# Altium footprint library misc.PcbLib: 13 footprints
Each footprint in its own frame and in the unit in brackets; x right, y up, seen from the top. Pads: shape width x height; smd on the part's side, far side on the other; paste and mask are expansions set on the pad; w line width, h text height; cw(c..) or ccw(c..) is an arc to the next point about the centre after c.
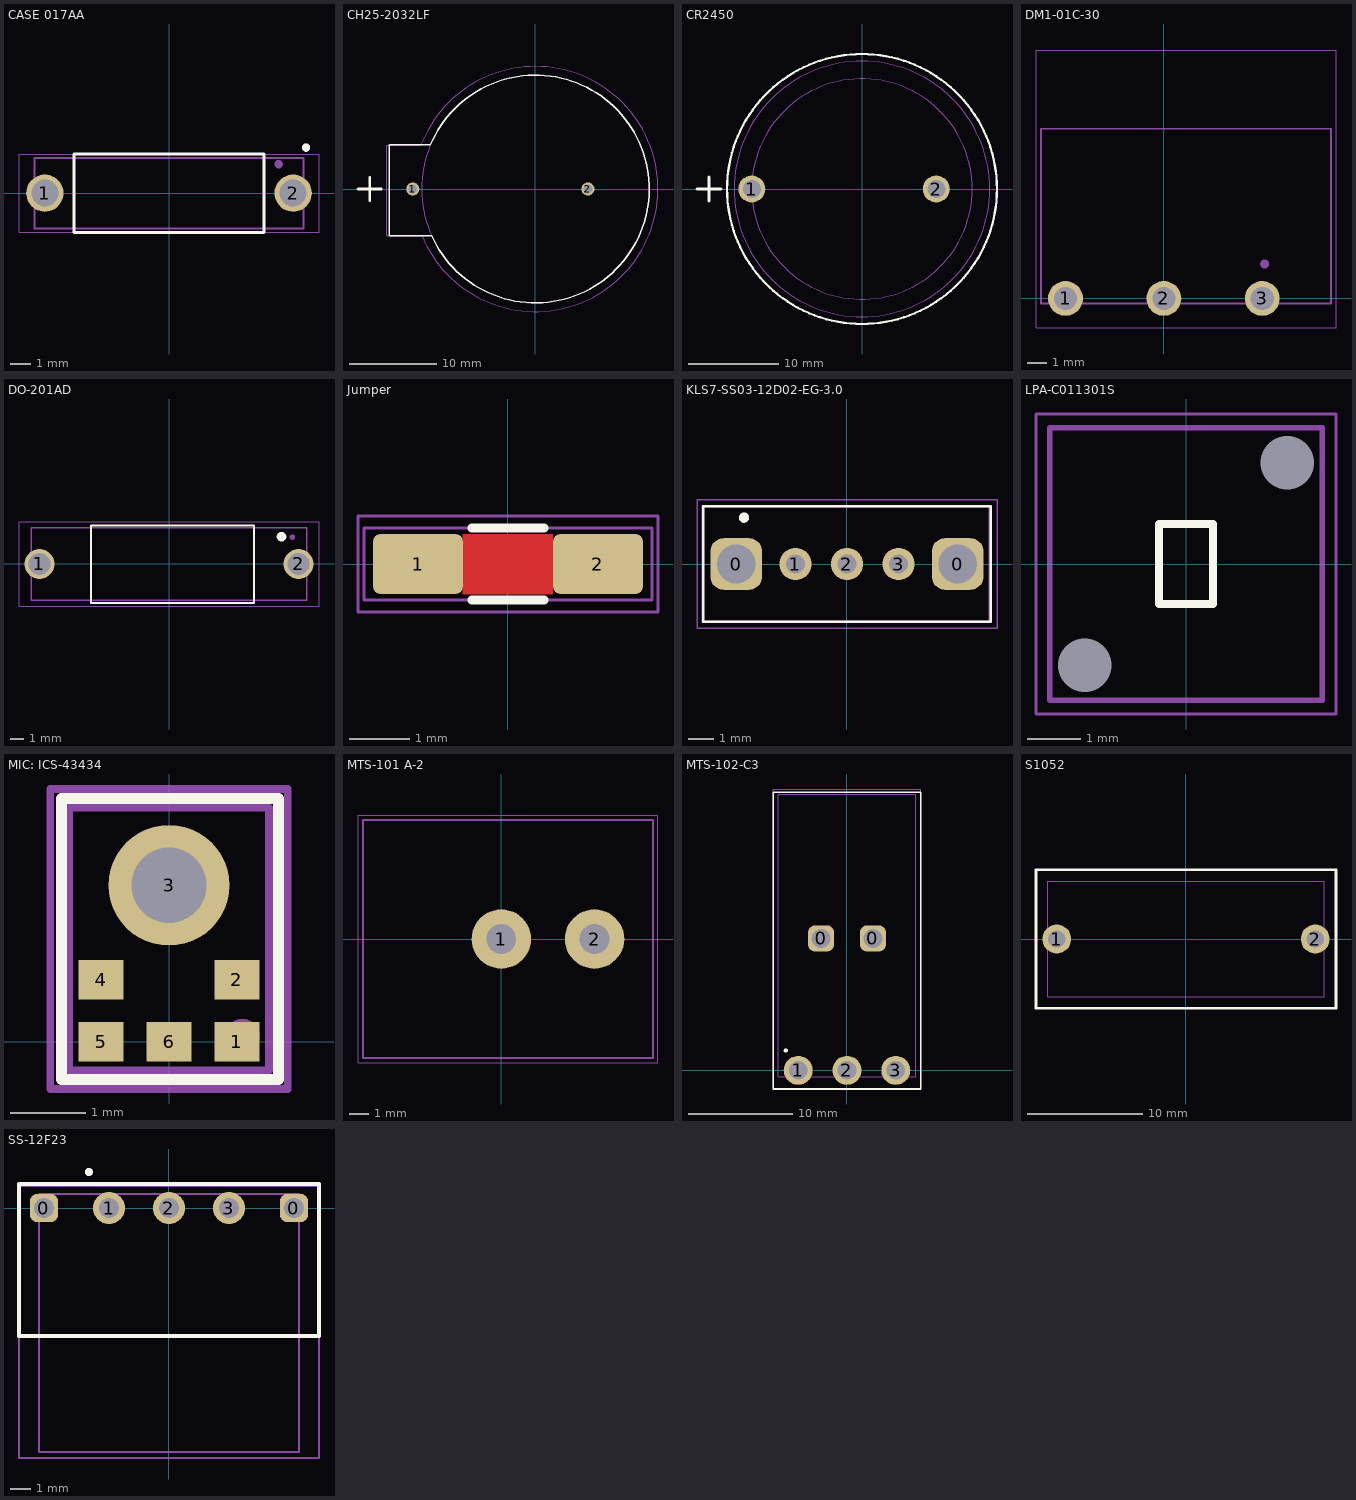
[diagram p0: the footprints below, top view; thin cyan lines are the x and y axes]

## CASE 017AA [mm]
pads (2):
  round 1.8 hole 1.3: 1(-6,0) 2(6,0)
Top Overlay:
  circle w0.2: c6.625,2.2 r0.1
  lines w0.15: -4.6,-1.9 -4.6,1.9 4.6,1.9 4.6,-1.9 -4.6,-1.9
Top Assembly:
  circle w0.2: c5.3,1.4 r0.1
  lines w0.1: -6.5,-1.7 6.5,-1.7 6.5,1.7 -6.5,1.7 -6.5,-1.7
  text ".Designator" at -4.998,-0.333 h1
Top Courtyard:
  lines w0.05: -7.25,-1.886 -7.25,1.886 7.25,1.886 7.25,-1.886 -7.25,-1.886
3D body "User Library-Diode Case 017AA.STEP": height 3.4, standoff -3, extent -6.5,-1.7 6.5,1.7

## CH25-2032LF [mm] "Battery holder"
pads (2):
  round 1.5 hole 1 paste-2539.97: 1(-14,0) 2(6,0)
Top Overlay:
  lines w0.15: -16.7,-5.347 -16.7,5.026 -11.989,5.026 cw(c0,0) -11.85,-5.347 -16.7,-5.347
  lines w0.3: -20.256,0 -17.59,0 ; -18.923,-1.333 -18.923,1.333
Top Assembly:
  circle w0.1: c0,0 r13
  text ".Designator" at -4.648,-2.817 h1
Top Courtyard:
  lines w0.05: -17.009,5.009 -17,5 ; -13.067,5 -17,5 ; -13.067,5.026 cw(c0,0) -12.939,-5.347 -17,-5.347 -17,5
3D body "User Library-CH25-2032.step": height 9.4, standoff -2, extent -16.354,-11.4 11.146,11.4

## CR2450 [mm]
pads (2):
  round 3 hole 2 paste-2539.97: 1(-12.25,0) 2(8.25,0)
Top Overlay:
  circle w0.254: c0,0 r15
  lines w0.3: -18.333,0 -15.666,0 ; -17,-1.333 -17,1.333
Top Assembly:
  circle w0.1: c0,0 r12.25
  text ".Designator" at -4.998,-0.333 h1
Top Courtyard:
  circle w0.05: c0,0 r14.201
3D body "Battery.STEP": height 7.45, standoff -3.27, extent -12.3,-12.5 13.2,12.5

## DM1-01C-30 [mm]
pads (3):
  round 1.8 hole 1.2 paste-2539.97: 1(-5.08,0) 2(0,0) 3(5.08,0)
Top Assembly:
  lines w0.1: -6.35,-0.254 -6.35,8.763 8.636,8.763 8.636,-0.254 -6.35,-0.254
  lines w0.254: 5.308,1.758 cw(c5.207,1.778) 5.31,1.778
  text ".Designator" at -4.998,-0.333 h1
Top Courtyard:
  lines w0.05: -6.604,-1.524 8.89,-1.524 8.89,12.827 -6.604,12.827 -6.604,-1.524
3D body "DM1-01C.step": height 4.1, standoff -5.5, extent -6.4,-0.371 8.65,12.427

## DO-201AD [mm]
pads (2):
  round 2.2 hole 1.6: 1(-9.5,0) 2(9.5,0)
Top Overlay:
  circle w0.5: c8.25,2 r0.1
  lines w0.15: -5.725,-2.875 6.225,-2.875 6.225,2.825 -5.725,2.825 -5.725,-2.875
Top Assembly:
  circle w0.2: c9.05,1.975 r0.1
  lines w0.1: -10.1,-2.649 10.1,-2.649 10.1,2.651 -10.1,2.651 -10.1,-2.649
  text ".Designator" at -4.998,-0.333 h1
Top Courtyard:
  lines w0.05: -11,-3.1 -11,3.1 11,3.1 11,-3.1 -11,-3.1
3D body "User Library-Diodo 1N5406 (Pitch 18_84mm).STEP": height 6.15, standoff -6.5, extent -10.08,-2.65 10.08,2.65

## Jumper [mm]
pads (2):
  rrect25% 1.5x1 smd: 1(-1.5,0) 2(1.5,0)
Top Layer:
  pour cut-out: 0.75,-0.5 0.75,0.5 -0.751,0.5 -0.751,-0.5
Top Overlay:
  lines w0.15: -0.6,-0.6 0.6,-0.6 ; -0.6,0.6 0.6,0.6
Top Assembly:
  lines w0.05: -2.4,-0.6 2.4,-0.6 2.4,0.6 -2.4,0.6 -2.4,-0.6
  text ".Designator" at -3.749,-0.25 h0.75
Top Courtyard:
  lines w0.05: -2.5,-0.8 2.5,-0.8 2.5,0.8 -2.5,0.8 -2.5,-0.8

## KLS7-SS03-12D02-EG-3.0 [mm] "Switch"
height 0.9
pads (5):
  rrect50% 2x2 hole 1.5: 0(-4.3,0) 0(4.3,0)
  round 1.25 hole 0.75: 1(-2,0) 2(0,0) 3(2,0)
Top Overlay:
  circle w0.2: c-4,1.8 r0.1
  lines w0.1: -5.575,-2.25 5.575,-2.25 5.575,2.25 -5.575,2.25 -5.575,-2.25
Top Assembly:
  lines w0.1: -5.6,-2.25 5.55,-2.25 5.55,2.25 -5.6,2.25 -5.6,-2.25
  text ".Designator" at -4.998,-0.333 h1
Top Courtyard:
  lines w0.05: -5.825,-2.5 5.825,-2.5 5.825,2.5 -5.825,2.5 -5.825,-2.5
3D body "User Library-KLS7-SS03-12D02-EG-3.STEP": height 7.83, standoff -2.3, extent -4.35,-2.25 4.35,2.25

## LPA-C011301S [mm] "Light Guide"
pads (2):
  round 0 hole 1: 0(-1.89,-1.89) 0(1.89,1.89)
Top Overlay:
  lines w0.15: -0.5,-0.75 -0.5,0.75 0.5,0.75 0.5,-0.75 -0.5,-0.75
Top Assembly:
  lines w0.1: -2.54,-2.54 2.54,-2.54 2.54,2.54 -2.54,2.54 -2.54,-2.54
  text ".Designator" at -4.998,-0.333 h1
Top Courtyard:
  lines w0.05: -2.8,-2.8 2.8,-2.8 2.8,2.8 -2.8,2.8 -2.8,-2.8
3D body "LPA-C011301S-30.STEP": height 34.7, standoff -2.3, extent -2.54,-2.54 2.54,2.54

## MIC: ICS-43434 [mm] "DPDT, 8.5x8.5x14"
height 14
pads (6):
  rect 0.6x0.522 smd: 1(0.9,0) 2(0.9,0.822) 4(-0.9,0.822) 5(-0.9,0) 6(0,0)
  round 1.6 hole 1: 3(0,2.074)
Top Overlay:
  lines w0.15: -1.425,-0.5 -1.425,3.225 1.45,3.225 1.45,-0.5 -1.425,-0.5
Top Assembly:
  lines w0.1: -1.325,-0.375 -1.325,3.1 1.325,3.1 1.325,-0.375 -1.325,-0.375
  lines w0.254: 1.073,0.055 cw(c0.972,0.075) 1.075,0.075
  text ".Designator" at -4.998,-0.333 h1
Top Courtyard:
  lines w0.1: -1.575,-0.625 1.575,-0.625 1.575,3.35 -1.575,3.35 -1.575,-0.625
3D body "ICS-43434.STEP": height 0.99, standoff 0.01, extent -1.325,-0.385 1.325,3.115

## MTS-101 A-2 [mm]
pads (2):
  round 3 hole 1.5 paste-2539.97: 1(0,0) 2(4.7,0)
Mechanical 1:
  lines w0.1: -6.975,-6 7.65,-6 7.65,6 -6.975,6 -6.975,-6
Top Assembly:
  text ".Designator" at -4.998,-0.333 h1
Top Courtyard:
  lines w0.05: -7.225,-6.25 -7.225,6.25 7.9,6.25 7.9,-6.25 -7.225,-6.25
3D body "MTS-101-A2-blue-OFF.stp": height 30.35, standoff -5.73, extent -6.976,-6 7.651,5.998

## MTS-102-C3 [mm] "Switch"
height 0.9
pads (5):
  rrect50% 2.5x2.5 hole 1.8: 0(-2.5,12.7) 0(2.5,12.7)
  round 2.8 hole 1.8: 1(-4.7,0) 2(0,0) 3(4.7,0)
Top Overlay:
  circle w0.2: c-5.9,1.9 r0.1
  lines w0.15: -7.1,-1.8 -7.1,26.8 7.1,26.8 7.1,-1.8 -7.1,-1.8
Top Assembly:
  circle w1: c-4.7,0.9 r0.001
  lines w0.1: -6.6,-0.6 -6.6,26.6 6.6,26.6 6.6,-0.6 -6.6,-0.6
  text ".Designator" at -4.998,-0.333 h1
Top Courtyard:
  lines w0.05: -7.1,-1.8 -7.1,27.1 7.1,27.1 7.1,-1.8 -7.1,-1.8
3D body "User Library-MTS-102-C3.STEP": height 8.46, standoff -2.64, extent -6.625,-0.65 6.575,26.6

## S1052 [mm]
pads (2):
  round 2.5 hole 1.5: 1(-11.2,0) 2(11.2,0)
Top Overlay:
  lines w0.254: -13,-6 13,-6 13,6 -13,6 -13,-6
Top Assembly:
  lines w0.1: -12,-5 12,-5 12,5 -12,5 -12,-5
  text ".Designator" at -4.998,-0.333 h1
Top Courtyard:
  lines w0.05: -13,-6 13,-6 13,6 -13,6 -13,-6
3D body: height 11, standoff 0, extent -12,-5 12,5

## SS-12F23 [mm] "Switch"
height 0.9
pads (5):
  rrect50% 1.4x1.4 hole 1: 0(-6.25,0) 0(6.25,0)
  round 1.6 hole 1: 1(-3,0) 2(0,0) 3(3,0)
Top Overlay:
  circle w0.2: c-4,1.8 r0.1
  lines w0.2: -7.5,-6.4 -7.5,1.2 7.5,1.2 7.5,-6.4 -7.5,-6.4
Top Assembly:
  lines w0.1: -6.5,-12.2 -6.5,0.7 6.5,0.7 6.5,-12.2 -6.5,-12.2
  text ".Designator" at -4.998,-0.333 h1
Top Courtyard:
  lines w0.1: -7.5,-12.5 7.5,-12.5 7.5,1.1 -7.5,1.1 -7.5,-12.5
3D body "User Library-SLIDE SWITCH SS12F23.STEP": height 6.25, standoff -2.85, extent -6.517,-12.225 6.483,0.675